# Altium schematic symbol library PCB_Project2.schlib: 8 symbols
Pins are listed as number, name and electrical type; pins without a type are passive.

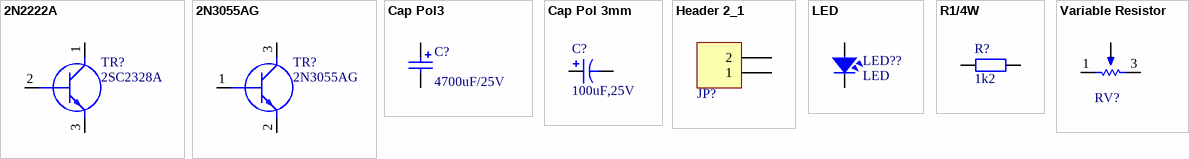
[diagram p0: symbols 2N2222A to Variable Resistor]

## 2N2222A
designator TR?, comment 2SC2328A
Transistor BJT NPN; Manufacturer_Name: Foshan Blue Rocket Elec; Manufacturer_Part_Number: 2N2222A; Datasheet Link: https://datasheet.lcsc.com/szlcsc/1901291437_Foshan-Blue-Rocket-Elec-2N2222A_C358533.pdf; Height: 4.7mm
footprint 2N2222A
pins: 1 C, 2 B, 3 E

## 2N3055AG
designator TR?
Transistor BJT NPN; Manufacturer_Name: ON Semiconductor; Datasheet Link: http://www.onsemi.com/pub/Collateral/2N3055A-D.PDF; Manufacturer_Part_Number: 2N3055AG; Mouser Part Number: 863-2N3055AG; Mouser Price/Stock: https://www.mouser.co.uk/ProductDetail/ON-Semiconductor/2N3055AG?qs=vLkC5FC1VN8e7R5UBGEUlg%3D%3D; Arrow Part Number: 2N3055AG; Arrow Price/Stock: https://www.arrow.com/en/products/2n3055ag/on-semiconductor
footprint TO-204
pins: 1 B, 2 E, 3 C

## Cap Pol3
designator C?  value 4700uF/25V
Polarized Capacitor (Surface Mount); VALUE: C?; LatestRevisionDate: 17-Jul-2002; LatestRevisionNote: Re-released for DXP Platform.; PackageReference: C0805; Publisher: Altium Limited
footprint TU_NGUON
footprint CP2/5
pins: 1, 2
1 alternate drawing of the same symbol

## Cap Pol 3mm
designator C?  (value not drawn)
Polarized Capacitor (Axial); Published: 8-Jun-2000; LatestRevisionDate: 17-Jul-2002; LatestRevisionNote: Re-released for DXP Platform.; PackageReference: POLAR0.8; Publisher: Altium Limited
footprint C3MM
pins: 1, 2
1 alternate drawing of the same symbol
text: 100uF,25V

## Header 2_1
designator JP?  (value not drawn)
Header, 2-Pin; Manufacturer: Generic Components; Class: Connector; Value: Header 2
footprint HED2 (Header 2, 2 pin, hight 300mil, Pin to Pin 200, Colour Green)
pins: 1, 2

## LED
designator LED??
LED Single colour Green and Red; Value: LED 3 ly Single Colour
footprint LED-3 (LED 2 PIN, 3ly Only colour)
footprint LED-V (LED 2 PIN, Rectang Only colour)
footprint LED-O (LED 2 PIN,  Ovan Only colour)
footprint LED-5 GRe (LED 2 PIN, 5 ly , Only colour,pin to pin 100mil)
footprint LED-5TRED (LED 2 PIN, 5 ly , Only colour, pin to pin 110mil)
pins: 1, 2

## R1/4W
designator R?, comment 1k2
Resistor 1/4W; Value: R1/4W - 1K
footprint R1/4W (R 1/4W, 2 Pin, 350mil)
footprint R1/8W (R 1/8W, 2 pin, 300mil)
footprint R1/2W (R 1/2W, 2 pin, 400mil)
footprint R1/4WD (R 1/4W, 2 Pin, 150mil)
footprint SM-RES-0805
pins: 1, 2

## Variable Resistor
designator RV?, comment 200  (value not drawn)
Variable Resistor; Sim Note: Enter the Resistance value and the set point into parameter fields.; Set Position: 0.5; Published: 8-Jun-2000; LatestRevisionDate: 17-Jul-2002; LatestRevisionNote: Re-released for DXP Platform.; PackageReference: VR5; Publisher: Altium Limited
footprint RVAR10K (Bien tro vi chinh)
pins: 1, 2, 3
1 alternate drawing of the same symbol